# Altium footprint library TO254P1542X460-3N.PcbLib: 1 footprints
Each footprint in its own frame and in the unit in brackets; x right, y up, seen from the top. Pads: shape width x height; smd on the part's side, far side on the other; paste and mask are expansions set on the pad; w line width, h text height; cw(c..) or ccw(c..) is an arc to the next point about the centre after c.
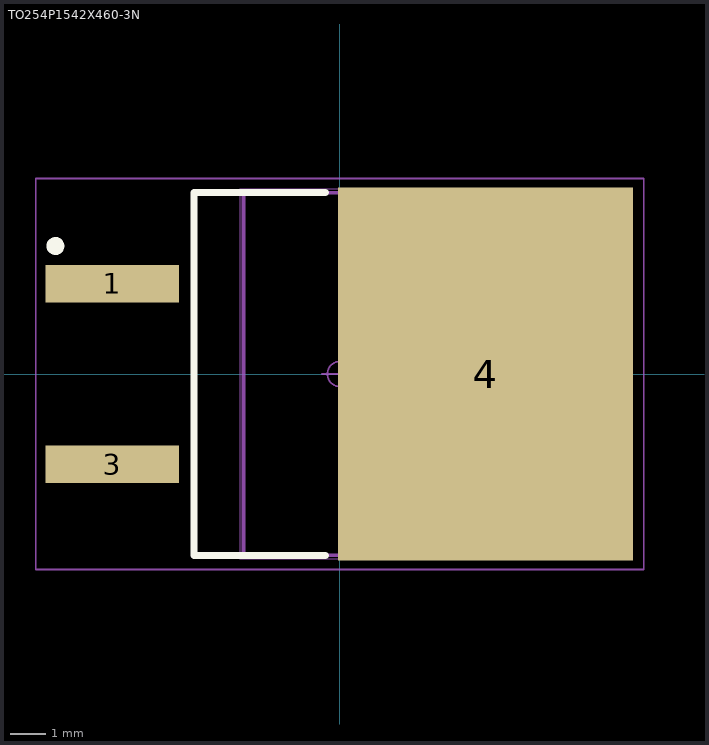
[diagram p0: the footprint, top view; thin cyan lines are the x and y axes]

## TO254P1542X460-3N [mm]
height 4.6
pads (3):
  rect 3.75x1.05 smd: 1(-6.4,2.54) 3(-6.4,-2.54)
  rect 8.3x10.5 smd: 4(4.1,0)
L26-Silk Screen Top (Multiple PADS layers...):
  circle w0.25: c-8,3.6 r0.125
  lines w0.2: -0.4,-5.1 -4.1,-5.1 -4.1,5.1 -0.4,5.1
L23-Paste Mask Top (Multiple PADS layers...):
  region: 0.8,-4.58 2.44,-4.58 2.44,-2.8 0.8,-2.8
  region: 3.28,-4.58 4.92,-4.58 4.92,-2.8 3.28,-2.8
  region: 5.76,-4.58 7.4,-4.58 7.4,-2.8 5.76,-2.8
  region: 0.8,-2.12 2.44,-2.12 2.44,-0.34 0.8,-0.34
  region: 3.28,-2.12 4.92,-2.12 4.92,-0.34 3.28,-0.34
  region: 5.76,-2.12 7.4,-2.12 7.4,-0.34 5.76,-0.34
  region: 0.8,0.34 2.44,0.34 2.44,2.12 0.8,2.12
  region: 3.28,0.34 4.92,0.34 4.92,2.12 3.28,2.12
  region: 5.76,0.34 7.4,0.34 7.4,2.12 5.76,2.12
  region: 0.8,2.8 2.44,2.8 2.44,4.58 0.8,4.58
  region: 3.28,2.8 4.92,2.8 4.92,4.58 3.28,4.58
  region: 5.76,2.8 7.4,2.8 7.4,4.58 5.76,4.58
L15 (Multiple PADS layers...):
  lines w0.1: 6.442,-5.1 -2.708,-5.1 -2.708,5.1 6.442,5.1 ; 6.442,-5.1 6.442,5.1 ; 6.442,-5.1 6.861,-5.1 7.712,-4.157 7.712,4.157 6.861,5.1 6.442,5.1
L20:
  circle w0.05: c0,0 r0.35
  lines w0.05: -0.5,0 0.5,0 ; 0,-0.5 0,0.5 ; -8.55,-5.5 8.55,-5.5 8.55,5.5 -8.55,5.5 -8.55,-5.5
L25 (Multiple PADS layers...):
  lines w0.001: -2.808,-5.2 6.542,-5.2 6.542,5.2 -2.808,5.2 -2.808,-5.2